# EAGLE library part MAX6675 (library 111_max6675)
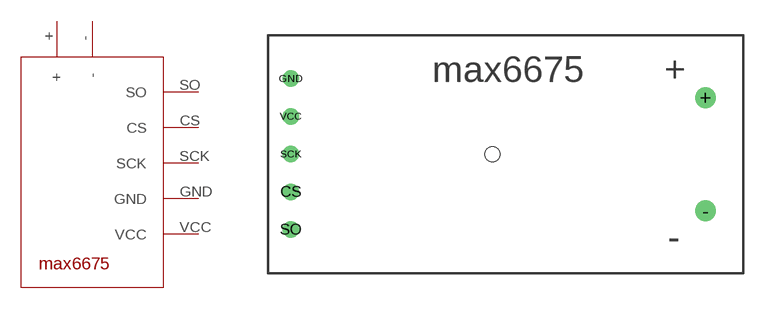
[diagram p0: symbol with the pads of MAX6675_FOOTPRINT; footprint MAX6675_FOOTPRINT]

Designator prefix -

## MAX6675  [MAX6675_FOOTPRINT]
+  +
-  -
CS  CS
GND  GND
SCK  SCK
SO  SO
VCC  VCC

## Footprint MAX6675_FOOTPRINT (pad centres in mm)
drill 0.9: + 29.464,11.811; - 29.464,4.191
drill 0.6: CS 1.524,5.461; GND 1.524,13.081; SCK 1.524,8.001; SO 1.524,2.921; VCC 1.524,10.541
hole 1 at 15.113,8.001